# Altium schematic symbol library TLV521.SchLib: 5 symbols
Pins are listed as number, name and electrical type; pins without a type are passive.

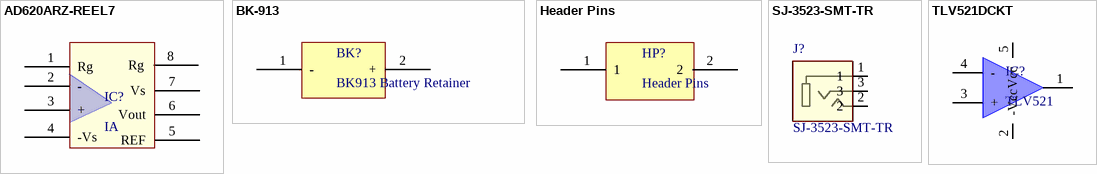
[diagram p0: symbols AD620ARZ-REEL7 to TLV521DCKT]

## AD620ARZ-REEL7
designator IC?, comment IA
IC OPAMP INSTR 1MHZ 8SOIC; Manufacturer 1: Analog Devices; Manufacturer Part Number 1: AD620ARZ-REEL7; Common Mode Rejection Ratio: 93dB; Number of Channels: 1; Min Supply Voltage: 4.6V; Min Dual Supply Voltage: 2.3V; Max Dual Supply Voltage: 18V; Slew Rate: 1.2V/µs; Nominal Supply Current: 900uA; Max Power Dissipation: 650mW; Bandwidth: 800kHz; Input Bias Current: 500pA; Input Offset Voltage (Vos): 30mV; Operating Supply Current: 1.3mA; Output Current per Channel: 18mA; Power Supply Rejection Ratio (PSRR): 140dB; Dual Supply Voltage: 15V; Input Resistance: 10GR; Supplier 1: Digi-Key; Supplier Part Number 1: AD620ARZ-REEL7CT-ND; Stock 1: 12581; Pricing 1: 1=9.81000, 10=8.85800, 25=8.44600, 100=7.33360, 250=7.00400 (USD); RoHS: Yes; Mount: Surface Mount; Case/Package: SOIC; Number of Pins: 8; Contact Plating: Tin,Matte; Min Operating Temperature: -55°C; Max Operating Temperature: 125°C; Packaging: Tape and Reel; Package Quantity: 1; -3db Bandwidth: 1MHz; Number of Circuits: 1; Number of Elements: 1; Power Dissipation: 650mW; Operating Supply Voltage: 18V; Radiation Hardening: No; Lead Free: Contains Lead; ComponentLink1URL: https://datasheet.ciiva.com/15128/getdatasheetpartid-88990-15128224.pdf?src-supplier=Verical; ComponentLink1Description: https://datasheet.ciiva.com/15128/getdatasheetpartid-88990-15128224.pdf?src-supplier=Verical; ComponentLink2URL: https://datasheet.ciiva.com/1579/26155-1579655.pdf?src-supplier=Newark; ComponentLink2Description: https://datasheet.ciiva.com/1579/26155-1579655.pdf?src-supplier=Newark; ComponentLink3URL: https://datasheet.ciiva.com/26847/ad620arz-reel7-26847213.pdf?src-supplier=IIIC; ComponentLink3Description: https://datasheet.ciiva.com/26847/ad620arz-reel7-26847213.pdf?src-supplier=IIIC; ComponentLink4URL: https://datasheet.ciiva.com/2976/ad620-2976391.pdf?src-supplier=Avnet; ComponentLink4Description: https://datasheet.ciiva.com/2976/ad620-2976391.pdf?src-supplier=Avnet; ComponentLink5URL: https://datasheet.ciiva.com/1794/ad620-1794712.pdf?src-supplier=Digi-Key; ComponentLink5Description: https://datasheet.ciiva.com/1794/ad620-1794712.pdf?src-supplier=Digi-Key; ComponentLink6URL: https://datasheet.ciiva.com/1794/ad620-1794713.pdf?src-supplier=Digi-Key; ComponentLink6Description: https://datasheet.ciiva.com/1794/ad620-1794713.pdf?src-supplier=Digi-Key; ComponentLink7URL: https://datasheet.ciiva.com/1794/ad620-1794714.pdf?src-supplier=Digi-Key; ComponentLink7Description: https://datasheet.ciiva.com/1794/ad620-1794714.pdf?src-supplier=Digi-Key; ComponentLink8URL: https://datasheet.ciiva.com/2975/ad620-2975599.pdf?src-supplier=Avnet; ComponentLink8Description: https://datasheet.ciiva.com/2975/ad620-2975599.pdf?src-supplier=Avnet; ComponentLink9URL: https://datasheet.ciiva.com/48709/001248702-da-01-en-ic-amp-inst-lp-ad620arz-reel7-soic-8-adi-48709622.pdf?src-supplier=Conrad; ComponentLink9Description: https://datasheet.ciiva.com/48709/001248702-da-01-en-ic-amp-inst-lp-ad620arz-reel7-soic-8-adi-48709622.pdf?src-supplier=Conrad; Category: Integrated Circuits (ICs)
footprint SOP2
pins: 1 Rg, 2 -, 3 +, 4 -Vs, 5 REF, 6 Vout, 7 Vs, 8 Rg

## BK-913
designator BK?, comment BK913 Battery Retainer
BATTERY RETAINER COIN PC PIN; Manufacturer 1: Memory Protection Devices; Manufacturer Part Number 1: BK-913; Number of Cells: 1; Supplier 1: Digi-Key; Supplier Part Number 1: BK-913-ND; Stock 1: 59379; Pricing 1: 1=0.42000, 10=0.35700, 100=0.29540, 500=0.25576, 1000=0.23935 (USD); RoHS: Yes; Mount: Through Hole,PCB; Package Quantity: 100; Termination: PC Pin; ComponentLink1URL: https://datasheet.ciiva.com/3/bk-913-datasheet-3800.pdf?src-supplier=Digi-Key; ComponentLink1Description: https://datasheet.ciiva.com/3/bk-913-datasheet-3800.pdf?src-supplier=Digi-Key; Category: Battery Products
footprint BK913
pins: 1 -, 2 +

## Header Pins
designator HP?
footprint Header_Pins
pins: 1, 2

## SJ-3523-SMT-TR
designator J?
3.5 mm, Stereo, Right Angle, Surface Mount _SMT_, Audio Jack Connector; MF: CUI Devices; CUI_purchase_URL: https://www.cuidevices.com/product/interconnect/connectors/audio-connectors/jacks/sj-352x-smt-series?utm_source=snapeda.com&utm_medium=referral&utm_campaign=snapedaBOM; Package: LGA-10 STMicroelectronics; Digi-Key_Purchase_URL: https://www.digikey.com/product-detail/en/cui-devices/SJ-3523-SMT-TR/CP-3523SJCT-ND/669704?utm_source=snapeda&utm_medium=aggregator&utm_campaign=symbol; Digi-Key_Part_Number: CP-3523SJCT-ND; SnapEDA_Link: https://www.snapeda.com/parts/SJ-3523-SMT-TR/CUI%20Devices/view-part/?ref=snap; MP: SJ-3523-SMT-TR; Value: *
footprint *CUI_SJ-3523-SMT-TR
pins: 1, 2, 3

## TLV521DCKT
designator IC?, comment TLV521
IC OP AMP 6KHZ RR SC-70-5; Manufacturer 1: Texas Instruments; Manufacturer Part Number 1: TLV521DCKT; Number of Circuits: 1; Slew Rate: 2.5V/µs; Input Bias Current: 1pA; Input Offset Voltage (Vos): 100uV; Operating Supply Current: 350nA; Output Current per Channel: 12mA; Supplier 1: Digi-Key; Stock 1: 7572; Pricing 1: 1=0.64000, 10=0.54800, 100=0.40950 (USD); RoHS: Yes; Mount: Surface Mount; Case/Package: SC; Number of Pins: 5; Min Operating Temperature: -40°C; Max Operating Temperature: 125°C; Packaging: Cut Tape; Gain Bandwidth Product: 6kHz; Bandwidth: 6kHz; Number of Amplifiers: 1; Number of Channels: 1; REACH SVHC: No SVHC; Lead Free: Lead Free; ComponentLink1URL: http://www.ti.com/general/docs/lit/getliterature.tsp?genericPartNumber=TLV521&&fileType=pdf&src-supplier=Element14; ComponentLink1Description: http://www.ti.com/general/docs/lit/getliterature.tsp?genericPartNumber=TLV521&&fileType=pdf&src-supplier=Element14; ComponentLink2URL: http://www.ti.com/lit/pdf/slyt701?src-supplier=Digi-Key; ComponentLink2Description: http://www.ti.com/lit/pdf/slyt701?src-supplier=Digi-Key; ComponentLink3URL: http://www.ti.com/lit/ds/symlink/tlv521.pdf?src-supplier=Digi-Key; ComponentLink3Description: http://www.ti.com/lit/ds/symlink/tlv521.pdf?src-supplier=Digi-Key; ComponentLink4URL: http://www.ti.com/general/docs/lit/getliterature.tsp?genericPartNumber=TLV521&amp;&amp;fileType=pdf&src-supplier=Farnell; ComponentLink4Description: http://www.ti.com/general/docs/lit/getliterature.tsp?genericPartNumber=TLV521&amp;&amp;fileType=pdf&src-supplier=Farnell; Supplier Part Number 1: 296-44482-1-ND; Category: Integrated Circuits (ICs)
footprint SOT65P210X110-5N (SOT23, 5-Leads, Body 2.00x2.10mm, Pitch 0.65mm, IPC Medium Density)
pins: 1 Vout, 2 -Vcc, 3 +, 4 -, 5 Vcc